# EAGLE library part IC_LC709203F (library akita)
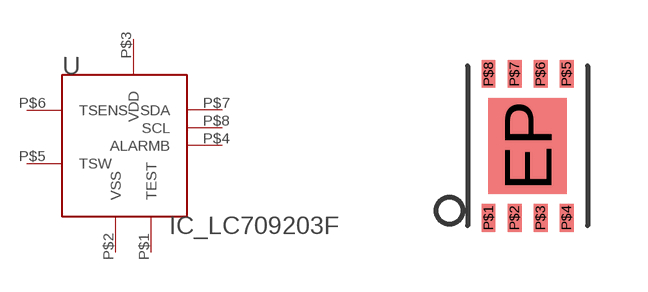
[diagram p128: symbol with the pads of WDFN8_0.65MM; footprint WDFN8_0.65MM]

Designator prefix U

## IC_LC709203FFQ  [WDFN8_0.65MM]
P$1  TEST
P$2  VSS
P$3  VDD
P$4  ALARMB
P$5  TSW
P$6  TSENS
P$7  SDA
P$8  SCL

## Footprint WDFN8_0.65MM (pad centres in mm)
smd 1.96 x 2.4: EP 0,0
smd 0.35 x 0.7: P$1 -0.975,-1.8; P$2 -0.325,-1.8; P$3 0.325,-1.8; P$4 0.975,-1.8; P$5 0.975,1.8; P$6 0.325,1.8; P$7 -0.325,1.8; P$8 -0.975,1.8